# Altium footprint library BNO085.PcbLib: 1 footprints
Each footprint in its own frame and in the unit in brackets; x right, y up, seen from the top. Pads: shape width x height; smd on the part's side, far side on the other; paste and mask are expansions set on the pad; w line width, h text height; cw(c..) or ccw(c..) is an arc to the next point about the centre after c.
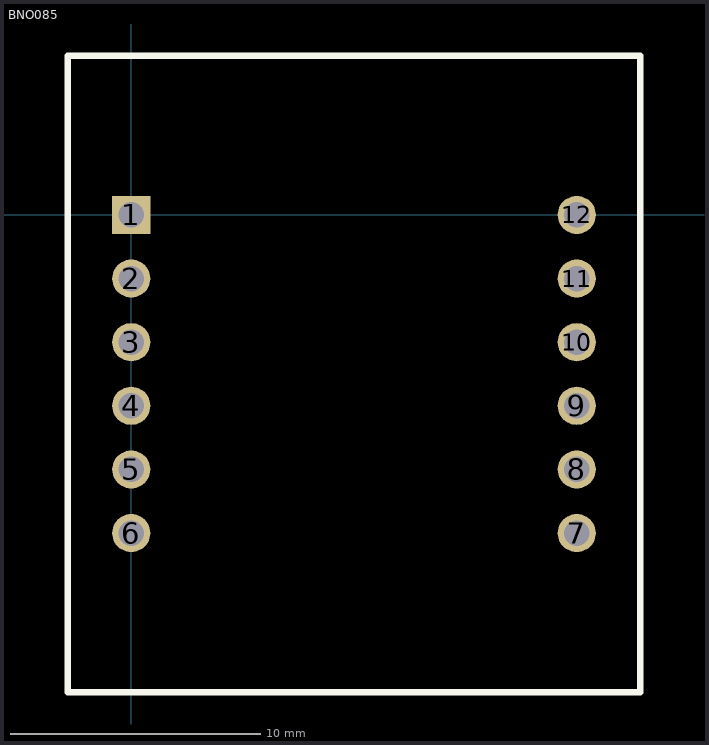
[diagram p0: the footprint, top view; thin cyan lines are the x and y axes]

## BNO085 [mil]
pads (12):
  rect 60x60 hole 40 mask+0: 1(0,0)
  round 60 hole 40 mask+0: 2(0,-100) 3(0,-200) 4(0,-300) 5(0,-400) 6(0,-500) 7(700,-500) 8(700,-400) 9(700,-300) 10(700,-200) 11(700,-100) 12(700,0)
Top Overlay:
  lines w10: -100,-750 -100,250 800,250 800,-750 -100,-750
3D body "Adafruit BNO085 STEMMA QT.step": height 271.1, standoff 90, extent -100,-750 800,250
3D body "22284067.stp": height 410, standoff -120, extent -49,-550 49,50
3D body "22284067.stp": height 410, standoff -120, extent 651,-550 749,50